# Altium footprint library PCB-QFP-WCH-QFN16-4x4.PcbLib: 1 footprints
Each footprint in its own frame and in the unit in brackets; x right, y up, seen from the top. Pads: shape width x height; smd on the part's side, far side on the other; paste and mask are expansions set on the pad; w line width, h text height; cw(c..) or ccw(c..) is an arc to the next point about the centre after c.
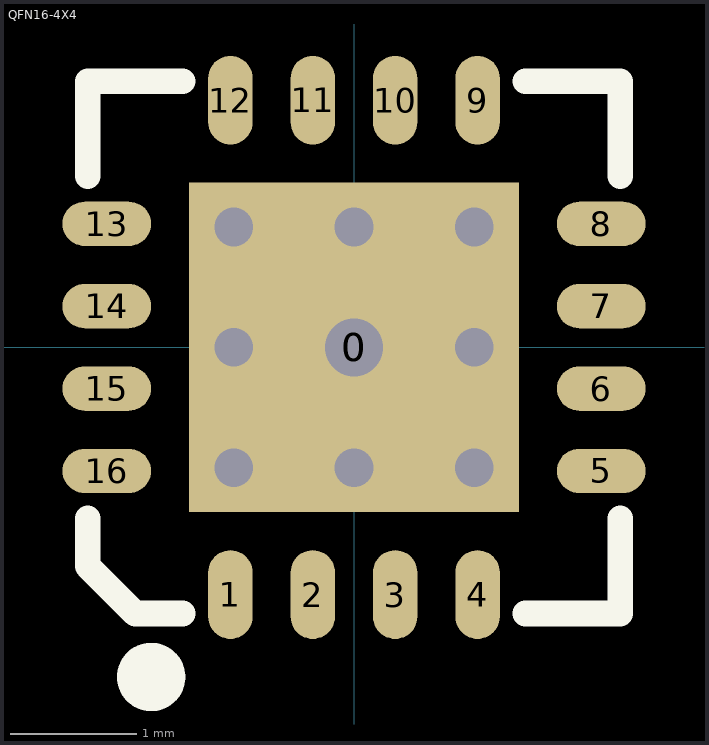
[diagram p0: the footprint, top view; thin cyan lines are the x and y axes]

## QFN16-4X4 [mm]
pads (18):
  rect 2.6x2.6 smd mask+0.051: 0(0,0)
  round 0.762 hole 0.457: 0(0,0)
  oval 0.35x0.7 smd mask+0.051: 1(-0.975,-1.95) 2(-0.325,-1.95) 3(0.325,-1.95) 4(0.975,-1.95) 9(0.975,1.95) 10(0.325,1.95) 11(-0.325,1.95) 12(-0.975,1.95)
  oval 0.7x0.35 smd mask+0.051: 5(1.95,-0.975) 6(1.95,-0.325) 7(1.95,0.325) 8(1.95,0.975) 13(-1.95,0.975) 14(-1.95,0.325) 15(-1.95,-0.325) 16(-1.95,-0.975)
via 0.95,0 diameter 0.61 hole 0.305
via 0,-0.95 diameter 0.61 hole 0.305
via -0.95,0 diameter 0.61 hole 0.305
via 0,0.95 diameter 0.61 hole 0.305
via -0.95,0.95 diameter 0.61 hole 0.305
via 0.95,0.95 diameter 0.61 hole 0.305
via 0.95,-0.95 diameter 0.61 hole 0.305
via -0.95,-0.95 diameter 0.61 hole 0.305
Top Overlay:
  circle w0.3: c-1.6,-2.6 r0.12
  lines w0.203: -2.1,-1.35 -2.1,-1.725 -1.725,-2.1 -1.35,-2.1 ; -2.1,1.35 -2.1,2.1 -1.35,2.1 ; 1.35,-2.1 2.1,-2.1 2.1,-1.35 ; 1.35,2.1 2.1,2.1 2.1,1.35